# EAGLE library part LMD18200 (library cls)
DMOS FULL BRIDGE DRIVER
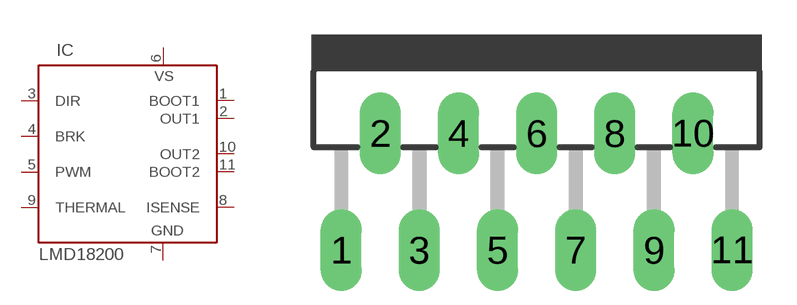
[diagram p0: symbol with the pads of MULTIWATT-11; footprint MULTIWATT-11]

Designator prefix IC

## LMD18200  [MULTIWATT-11]
1  BOOT1  in
2  OUT1  out
3  DIR  in
4  BRK  in
5  PWM  in
6  VS  pwr
7  GND  pwr
8  ISENSE  in
9  THERMAL  in
10  OUT2  out
11  BOOT2  in

## Footprint MULTIWATT-11 (pad centres in mm)
Muliwatt 11 lead
drill 0.5 pad 1.778 long: 1 -8.5,-6.35; 2 -6.8,-1.27; 3 -5.1,-6.35; 4 -3.4,-1.27; 5 -1.7,-6.35; 6 0,-1.27; 7 1.7,-6.35; 8 3.4,-1.27; 9 5.1,-6.35; 10 6.8,-1.27; 11 8.5,-6.35